# Altium schematic symbol library schematicLib.SchLib: 2 symbols
Pins are listed as number, name and electrical type; pins without a type are passive.

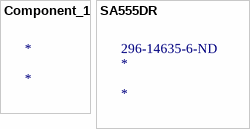
[diagram p0: symbols Component_1 to SA555DR]

## Component_1
designator *

## SA555DR
designator *  Supplier Part Number 1: 296-14635-6-ND
IC OSC SGL TIMER 100KHZ 8-SOIC; Manufacturer: Texas Instruments; Manufacturer Part Number: SA555DR; Min Supply Voltage: 4.5V; Max Supply Voltage: 16V; Nominal Supply Current: 2mA; Operating Supply Current: 10mA; Number of Timers/Counters: 1; Quiescent Current: 15mA; High Level Output Current: -200mA; Low Level Output Current: 200mA; Supplier 1: Digi-Key; Stock 1: 53335; Pricing 1: 1=0.4, 10=0.324, 100=0.2208, 500=0.16562, 1000=0.12422 (USD); Mount: Surface Mount; Case/Package: SOIC; Number of Pins: 8; Weight: 0.002561oz; Contact Plating: Gold; Min Operating Temperature: -40°C; Max Operating Temperature: 85°C; Frequency: 100kHz; Packaging: Tape and Reel; Package Quantity: 2500; Radiation Hardening: No; REACH SVHC: No SVHC; Lead Free: Lead Free; ComponentLink1URL: http://www.ti.com/lit/ds/symlink/sa555.pdf; ComponentLink1Description: http://www.ti.com/lit/ds/symlink/sa555.pdf; ComponentLink2URL: http://www.ti.com/general/docs/lit/getliterature.tsp?genericPartNumber=NA555&&fileType=pdf; ComponentLink2Description: http://www.ti.com/general/docs/lit/getliterature.tsp?genericPartNumber=NA555&&fileType=pdf; ComponentLink3URL: http://www.ti.com/lit/ds/symlink/se555m.pdf; ComponentLink3Description: http://www.ti.com/lit/ds/symlink/se555m.pdf; ComponentLink4URL: http://www.farnell.com/datasheets/2020375.pdf; ComponentLink4Description: http://www.farnell.com/datasheets/2020375.pdf; ComponentLink5URL: https://www.verical.com/server-webapp/html/getDatasheet?partID=247856; ComponentLink5Description: https://www.verical.com/server-webapp/html/getDatasheet?partID=247856; ComponentLink6URL: http://www.jameco.com/Jameco/Products/ProdDS/1998263.pdf; ComponentLink6Description: http://www.jameco.com/Jameco/Products/ProdDS/1998263.pdf